# EAGLE library part BQ78350-R1 (library bq78350-R1)
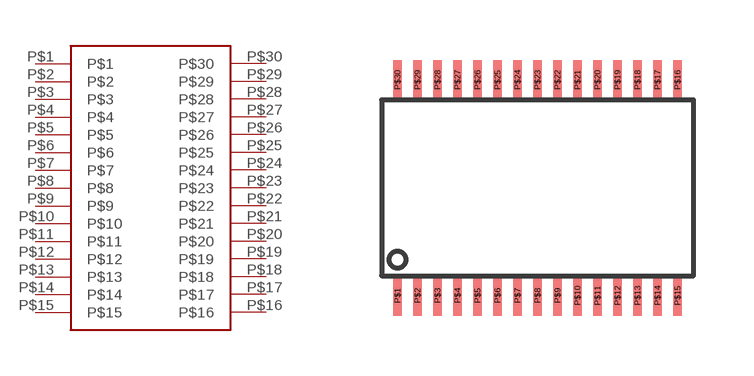
[diagram p0: symbol with the pads of TSSOP-30; footprint TSSOP-30]

Designator prefix BQ78350-R1

## BQ78350-R1  [TSSOP-30]
P$1  P$1
P$2  P$2
P$3  P$3
P$4  P$4
P$5  P$5
P$6  P$6
P$7  P$7
P$8  P$8
P$9  P$9
P$10  P$10
P$11  P$11
P$12  P$12
P$13  P$13
P$14  P$14
P$15  P$15
P$16  P$16
P$17  P$17
P$18  P$18
P$19  P$19
P$20  P$20
P$21  P$21
P$22  P$22
P$23  P$23
P$24  P$24
P$25  P$25
P$26  P$26
P$27  P$27
P$28  P$28
P$29  P$29
P$30  P$30

## Footprint TSSOP-30 (pad centres in mm)
smd 0.22 x 1: P$1 0,0; P$2 0.5,0; P$3 1,0; P$4 1.5,0; P$5 2,0; P$6 2.5,0; P$7 3,0; P$8 3.5,0; P$9 4,0; P$10 4.5,0; P$11 5,0; P$12 5.5,0; P$13 6,0; P$14 6.5,0; P$15 7,0; P$16 7,5.4; P$17 6.5,5.4; P$18 6,5.4; P$19 5.5,5.4; P$20 5,5.4; P$21 4.5,5.4; P$22 4,5.4; P$23 3.5,5.4; P$24 3,5.4; P$25 2.5,5.4; P$26 2,5.4; P$27 1.5,5.4; P$28 1,5.4; P$29 0.5,5.4; P$30 0,5.4